# EAGLE library part OLED_OLED128 (library duckypad)
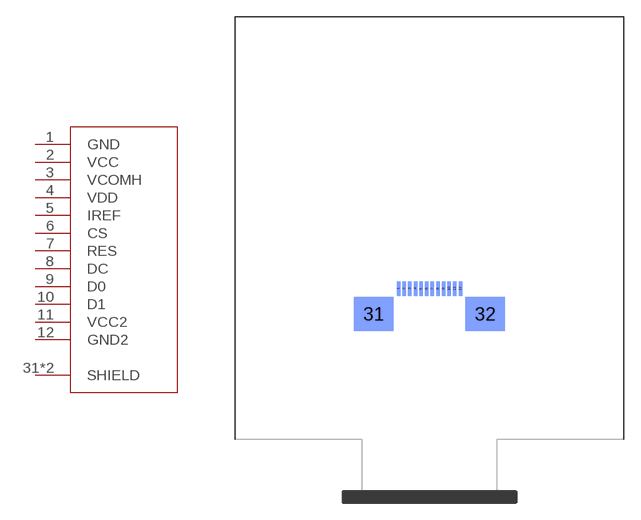
[diagram p2: symbol with the pads of OLED_LUL_UG-2864HSWEG01_1.3_WRAPAROUND; footprint OLED_LUL_UG-2864HSWEG01_1.3_WRAPAROUND]

Designator prefix -

## OLED_OLED128  [OLED_LUL_UG-2864HSWEG01_1.3_WRAPAROUND]
1  GND
2  VCC
3  VCOMH
4  VDD
5  IREF
6  CS
7  RES
8  DC
9  D0
10  D1
11  VCC2
12  GND2
31  SHIELD
32  SHIELD

## Footprint OLED_LUL_UG-2864HSWEG01_1.3_WRAPAROUND (pad centres in mm)
smd 0.31 x 1.28 bottom: 1 -2.75,-0.22; 2 -2.25,-0.22; 3 -1.75,-0.22; 4 -1.25,-0.22; 5 -0.75,-0.22; 6 -0.25,-0.22; 7 0.25,-0.22; 8 0.75,-0.22; 9 1.25,-0.22; 10 1.75,-0.22; 11 2.25,-0.22; 12 2.75,-0.22
smd 3.5 x 3 bottom: 31 -4.95,-2.46; 32 4.95,-2.46